# Altium footprint library RoboHospitalar.PcbLib: 30 footprints (part 1 of 2)
Each footprint in its own frame and in the unit in brackets; x right, y up, seen from the top. Pads: shape width x height; smd on the part's side, far side on the other; paste and mask are expansions set on the pad; w line width, h text height; cw(c..) or ccw(c..) is an arc to the next point about the centre after c.
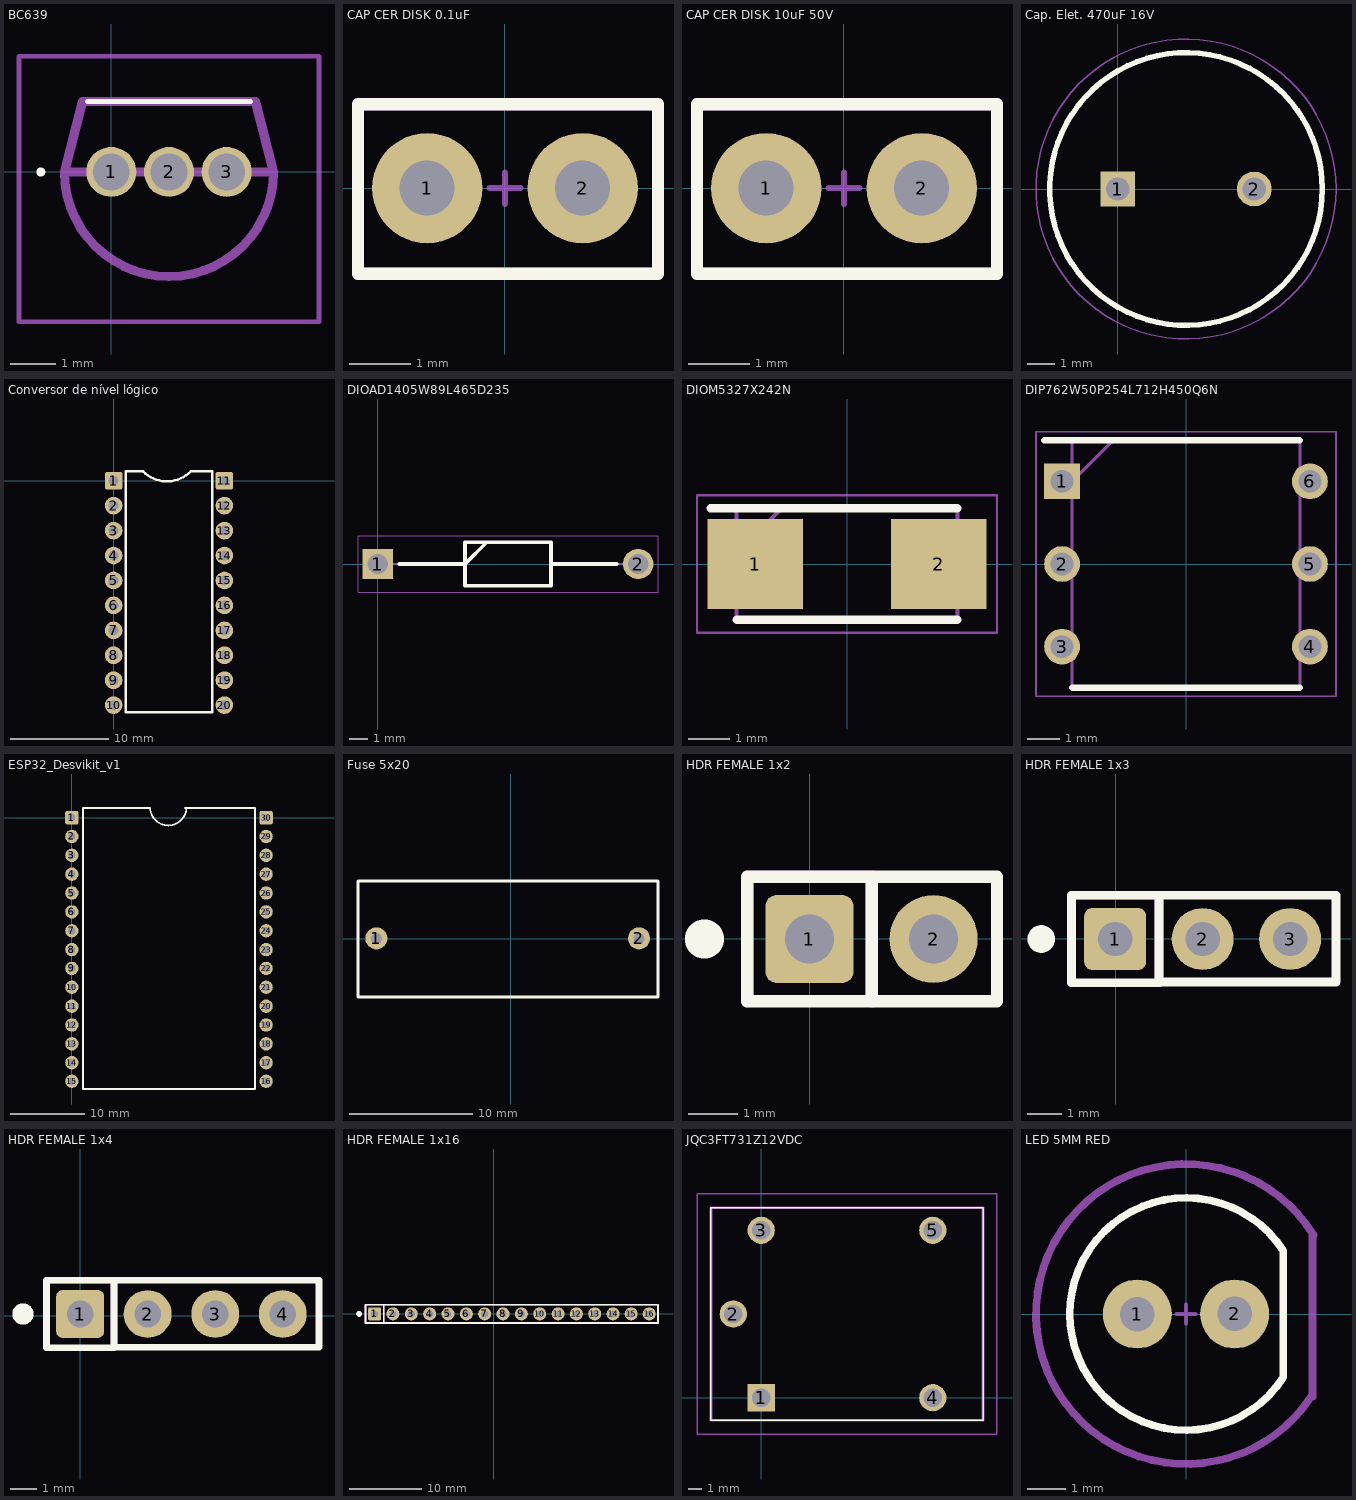
[diagram p0: the footprints below, top view; thin cyan lines are the x and y axes]

## BC639 [mm]
pads (3):
  round 1.1 hole 0.81: 1(0,0) 2(1.27,0) 3(2.54,0)
Top Overlay:
  lines w0.1: -0.53,1.55 3.07,1.55 ; -1.6,0 cw(c-1.55,0) -1.5,0 cw(c-1.55,0) -1.6,0
Mechanical 13:
  lines w0.2: -1.03,0 ccw(c1.27,0) 3.57,0 ; -1.03,0 -0.63,1.55 3.17,1.55 3.57,0 ; -1.03,0 3.57,0
Mechanical 15:
  lines w0.1: -2.03,-3.3 -2.03,2.55 4.57,2.55 4.57,-3.3 -2.03,-3.3

## CAP CER DISK 0.1uF [mm] "Connector; Header; 5 Position"
pads (2):
  round 1.8 hole 0.9: 1(-1.27,0) 2(1.27,0)
Top Overlay:
  lines w0.2: -2.4,-1.397 -2.4,1.37 2.5,1.37 2.5,-1.397 -2.4,-1.397
Mechanical 15:
  lines w0.1: -0.254,0 0.254,0 ; 0,-0.254 0,0.254
  lines w0.2: -2.4,-1.397 2.5,-1.397 2.5,1.37 -2.4,1.37 -2.4,-1.397
Mechanical 29:
  text ".Designator" at -2.2,1.8 h0.5
  text "1" at -0.4,-1.1 h0.5
3D body "CAP_Ceramic.STEP": height 6.1, standoff -3.93, extent -2.28,-1.25 2.42,1.25

## CAP CER DISK 10uF 50V [mm] "Connector; Header; 5 Position"
pads (2):
  round 1.8 hole 0.9: 1(-1.27,0) 2(1.27,0)
Top Overlay:
  lines w0.2: -2.4,-1.397 2.5,-1.397 2.5,1.37 -2.4,1.37 -2.4,-1.397
Mechanical 15:
  lines w0.1: -0.254,0 0.254,0 ; 0,-0.254 0,0.254
  lines w0.2: -2.4,-1.397 -2.4,1.37 2.5,1.37 2.5,-1.397 -2.4,-1.397
Mechanical 29:
  text "1" at -0.4,-1.1 h0.5
  text ".Designator" at -2.2,1.8 h0.5
3D body "CAP_Ceramic.STEP": height 6.1, standoff -3.93, extent -2.28,-1.25 2.42,1.25

## Cap. Elet. 470uF 16V [mm]
pads (2):
  rect 1.275x1.275 hole 0.85: 1(0,0)
  round 1.275 hole 0.85: 2(5,0)
Top Overlay:
  circle w0.2: c2.5,0 r5
Mechanical 13:
  circle w0.1: c2.5,0 r5
Mechanical 15:
  circle w0.05: c2.5,0 r5.5
3D body "16SEPC470M.stp": height 13, standoff -10, extent -2.75,-5.247 7.75,5.247

## Conversor de nível lógico [mm] "3V3 para 5V"
pads (20):
  rrect25% 1.8x1.8 hole 1: 1(-0.025,0) 11(11.25,0)
  round 1.8 hole 1: 2(-0.025,-2.54) 3(-0.025,-5.08) 4(-0.025,-7.62) 5(-0.025,-10.16) 6(-0.025,-12.7) 7(-0.025,-15.24) 8(-0.025,-17.78) 9(-0.025,-20.32) 10(-0.025,-22.86) 12(11.25,-2.54) 13(11.25,-5.08) 14(11.25,-7.62) 15(11.25,-10.16) 16(11.25,-12.7) 17(11.25,-15.24) 18(11.25,-17.78) 19(11.25,-20.32) 20(11.25,-22.86)
Top Overlay:
  lines w0.254: 1.2,-23.56 10.025,-23.56 10.025,0.94 7.825,0.94 cw(c5.4,3.365) 2.975,0.94 1.2,0.94 1.2,-23.56
3D body "User Library-Header_Fem_1X10.STEP": height 8.5, standoff -3.2, extent 9.925,-24.4 12.465,1.5
3D body "User Library-Header_Fem_1X10.STEP": height 8.5, standoff -3.2, extent -1.25,-24.375 1.29,1.525

## DIOAD1405W89L465D235 [mm]
pads (2):
  rect 1.65x1.65 hole 1.1: 1(0,0)
  round 1.65 hole 1.1: 2(14.1,0)
Top Overlay:
  lines w0.2: 1.175,0 4.725,0 5.9,1.175 ; 9.375,0 12.925,0 ; 4.725,-1.175 4.725,1.175 9.375,1.175 9.375,-1.175 4.725,-1.175
Mechanical 13:
  lines w0.1: 0,0 4.725,0 5.9,1.175 ; 9.375,0 14.1,0 ; 4.725,-1.175 4.725,1.175 9.375,1.175 9.375,-1.175 4.725,-1.175
Mechanical 15:
  lines w0.05: -1.075,-1.525 -1.075,1.525 15.175,1.525 15.175,-1.525 -1.075,-1.525
3D body "1N4007-E3_53.stp": height 2.69, standoff -2.7, extent -0.441,-1.347 14.495,1.347

## DIOM5327X242N [mm]
pads (2):
  rect 2.3x2.15 smd: 1(-2.2,0) 2(2.2,0)
Top Overlay:
  lines w0.2: -3.275,1.335 2.648,1.335 ; -2.648,-1.335 2.648,-1.335
Mechanical 13:
  lines w0.1: -2.648,0.26 -1.572,1.335 ; -2.648,-1.335 2.648,-1.335 2.648,1.335 -2.648,1.335 -2.648,-1.335
Mechanical 15:
  lines w0.05: -3.6,-1.65 3.6,-1.65 3.6,1.65 -3.6,1.65 -3.6,-1.65
3D body "1N4007.stp": height 2.42, standoff 0, extent -2.648,-1.335 2.648,1.335

## DIP762W50P254L712H450Q6N [mm]
pads (6):
  rect 1.1x1.1 hole 0.7: 1(-3.81,2.54)
  round 1.1 hole 0.7: 2(-3.81,0) 3(-3.81,-2.54) 4(3.81,-2.54) 5(3.81,0) 6(3.81,2.54)
Top Overlay:
  lines w0.2: -4.36,3.81 3.5,3.81 ; -3.5,-3.81 3.5,-3.81
Mechanical 13:
  lines w0.1: -3.5,2.54 -2.23,3.81 ; -3.5,-3.81 3.5,-3.81 3.5,3.81 -3.5,3.81 -3.5,-3.81
Mechanical 15:
  lines w0.05: -4.61,-4.06 4.61,-4.06 4.61,4.06 -4.61,4.06 -4.61,-4.06
3D body "4N25.stp": height 4.5, standoff -3.5, extent -3.935,-3.56 3.935,3.56

## ESP32_Desvikit_v1 [mm]
pads (30):
  rrect25% 1.8x1.8 hole 1: 1(0,0) 30(26.175,0)
  round 1.8 hole 1: 2(0,-2.54) 3(0,-5.08) 4(0,-7.62) 5(0,-10.16) 6(0,-12.7) 7(0,-15.24) 8(0,-17.78) 9(0,-20.32) 10(0,-22.86) 11(0,-25.4) 12(0,-27.94) 13(0,-30.48) 14(0,-33.02) 15(0,-35.52) 16(26.175,-35.52) 17(26.175,-33.02) 18(26.175,-30.48) 19(26.175,-27.94) 20(26.175,-25.4) 21(26.175,-22.86) 22(26.175,-20.32) 23(26.175,-17.78) 24(26.175,-15.24) 25(26.175,-12.7) 26(26.175,-10.16) 27(26.175,-7.62) 28(26.175,-5.08) 29(26.175,-2.54)
Top Overlay:
  lines w0.254: 10.539,1.279 1.475,1.279 1.475,-36.567 24.689,-36.567 24.689,1.279 15.21,1.279 ; 10.539,1.289 ccw(c12.989,1.406) 15.44,1.308 ; 15.469,1.279 15.91,1.279
3D body "Header_Female.STEP": height 8.4, standoff -3.15, extent 24.899,-36.62 27.399,-23.92
3D body "Header_Female.STEP": height 8.4, standoff -3.15, extent 24.899,-24.12 27.399,-11.42
3D body "Header_Female.STEP": height 8.4, standoff -3.15, extent 24.899,-11.67 27.399,1.03
3D body "Header_Female.STEP": height 8.4, standoff -3.15, extent -1.2,-36.62 1.3,-23.92
3D body "Header_Female.STEP": height 8.4, standoff -3.15, extent -1.2,-24.12 1.3,-11.42
3D body "Header_Female.STEP": height 8.4, standoff -3.15, extent -1.2,-11.67 1.3,1.03
3D body "ESP-WROOM32.STEP": height 15.1, standoff 2.7, extent -1.141,-46.026 27.359,4.904

## Fuse 5x20 [mm] "Connector; Header; 5 Position"
pads (2):
  round 1.8 hole 0.9: 1(-10.95,0.025) 2(10.45,0.025)
Top Overlay:
  lines w0.254: -12.45,-4.75 -12.45,4.7 12,4.7 12,-4.725 11.975,-4.75 -12.45,-4.75
3D body "696106003002.stp": height 12, standoff -5, extent -12.425,-4.775 11.975,4.625

## HDR FEMALE 1x2 [mm]
pads (2):
  rrect25% 1.8x1.8 hole 1: 1(-0.01,0)
  round 1.8 hole 1: 2(2.53,0)
Top Overlay:
  circle w0.5: c-2.16,0 r0.15
  lines w0.254: -1.28,1.27 1.26,1.27 1.26,-1.27 ; -1.28,1.27 -1.28,-1.27 1.26,-1.27 ; -1.28,1.27 3.825,1.27 3.825,-0.635 3.825,-1.27 1.26,-1.27
Mechanical 3:
  lines w0.254: -1.28,-1.27 -1.28,1.27 1.26,1.27 1.26,-1.27

## HDR FEMALE 1x3 [mm]
pads (3):
  rrect25% 1.8x1.8 hole 1: 1(-0.01,0)
  round 1.8 hole 1: 2(2.53,0) 3(5.07,0)
Top Overlay:
  circle w0.5: c-2.16,0 r0.15
  lines w0.254: -1.28,1.27 6.4,1.27 6.4,0.69 6.4,-1.25 1.28,-1.25 1.26,-1.27 ; -1.28,1.27 -1.28,-1.27 1.26,-1.27 ; -1.28,1.27 1.26,1.27 1.26,-1.27
Mechanical 3:
  lines w0.254: -1.28,-1.27 -1.28,1.27 1.26,1.27 1.26,-1.27

## HDR FEMALE 1x4 [mm]
pads (4):
  rrect25% 1.8x1.8 hole 1: 1(-0.01,0.075)
  round 1.8 hole 1: 2(2.53,0.075) 3(5.07,0.075) 4(7.61,0.075)
Top Overlay:
  circle w0.5: c-2.16,0.075 r0.15
  lines w0.254: -1.28,1.345 1.26,1.345 1.26,-1.195 ; -1.28,1.345 -1.28,-1.195 1.26,-1.195 ; -1.28,1.345 8.975,1.345 8.975,-0.375 8.975,-1.175 1.28,-1.175 1.26,-1.195
Mechanical 3:
  lines w0.254: -1.28,-1.195 -1.28,1.345 1.26,1.345 1.26,-1.195

## HDR FEMALE 1x16 [mm]
pads (16):
  rrect25% 1.8x1.8 hole 1: 1(-16.51,0)
  round 1.8 hole 1: 2(-13.97,0) 3(-11.43,0) 4(-8.89,0) 5(-6.35,0) 6(-3.81,0) 7(-1.27,0) 8(1.27,0) 9(3.81,0) 10(6.35,0) 11(8.89,0) 12(11.43,0) 13(13.97,0) 14(16.51,0) 15(19.01,0) 16(21.51,0)
Top Overlay:
  circle w0.5: c-18.66,0 r0.15
  lines w0.254: -15.24,-1.27 -15.24,1.27 -17.78,1.27 ; -17.78,1.27 -17.78,-1.27 20.4,-1.27 22.73,-1.27 22.73,1.27 20.4,1.27 -17.78,1.27
Mechanical 3:
  lines w0.254: -15.24,-1.27 -15.24,1.27 -17.78,1.27 ; 22.7,-1.27 -17.78,-1.27 -17.78,1.27 ; 22.7,1.27 -17.78,1.27
Mechanical 15:
  lines w0.254: 22.7,-1.3 22.7,1.2
3D body "User Library-Header Female 1x16.STEP": height 8.43, standoff -3.44, extent -17.982,-1.205 22.808,1.27

## JQC3FT731Z12VDC [mm]
pads (5):
  rect 1.95x1.95 hole 1.3: 1(0,0)
  round 1.95 hole 1.3: 2(-2,6) 3(0,12) 4(12.3,0) 5(12.3,12)
Top Overlay:
  lines w0.1: -3.6,-1.62 -3.6,13.62 15.9,13.62 15.9,-1.62 -3.6,-1.62
Mechanical 13:
  lines w0.2: -3.6,-1.62 -3.6,13.62 15.9,13.62 15.9,-1.62 -3.6,-1.62
Mechanical 15:
  lines w0.1: -4.6,-2.62 -4.6,14.62 16.9,14.62 16.9,-2.62 -4.6,-2.62
3D body "JQC-3F-_T73_-1Z-12VDC.stp": height 15.6, standoff -5, extent -3.6,-1.62 15.9,13.62

## LED 5MM RED [mm]
pads (2):
  round 1.8 hole 0.9: 1(-1.27,0) 2(1.27,0)
Top Overlay:
  lines w0.2: 2.54,-1.651 cw(c0,0) 2.54,1.651 2.54,-1.651
Mechanical 15:
  lines w0.1: -0.254,0 0.254,0 ; 0,-0.254 0,0.254
  lines w0.2: 3.275,-2.141 cw(c0,0) 3.333,2.051 ; 3.302,-2.159 3.302,2.032
Mechanical 29:
  text ".Designator" at -2.159,2.794 h0.5
  text "A" at -1.143,-1.524 h0.5
  text "K" at 0.635,-1.524 h0.5
3D body "ALSRobot-LED Red 5mm.STEP": height 9.31, standoff -5.49, extent -2.98,-3.01 2.44,3.01